# Altium integrated library ON Semi MOSFETs.IntLib: 1097 symbols (part 26 of 26)
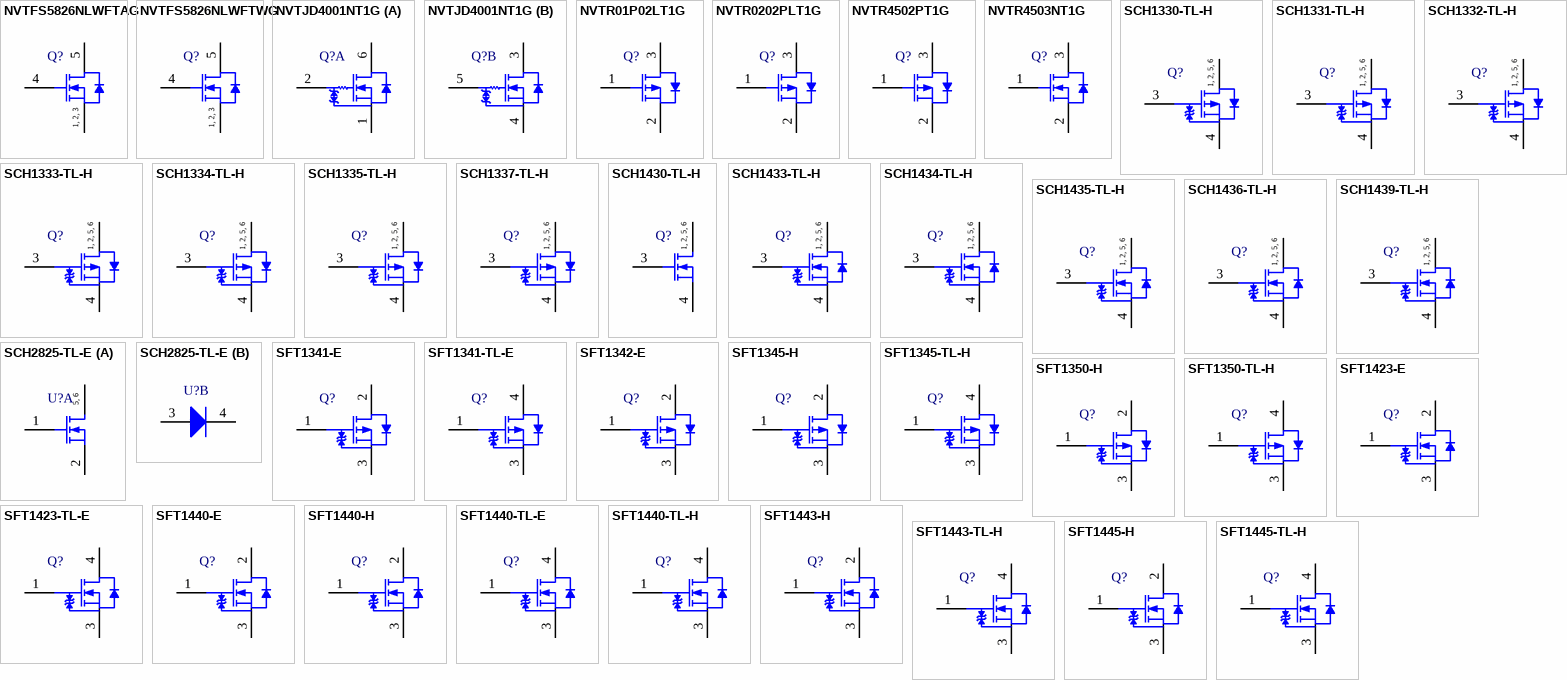
[diagram p56: symbols NVTFS5826NLWFTAG to SFT1445-TL-H]

## SFT1440-TL-E
designator Q?
N-Channel Power MOSFET, 600 V, 1.5 A, 8.1 Ohm, Single, 3-Pin TP-FA, Pb-Free, Tape and Reel; Manufacturer: On Semiconductor; PartNumber: SFT1440-TL-E; Channel Polarity: N Channel; Ciss Typ (pF): 130; Coss Typ (pF): 25; Crss Typ (pF): 4; ID Max (A): 1.5; V(BR)DSS Min (V): 600; VGS Max (V): 30; VGS(th) Max (V): 5; PackageVersion: Rev. O, 01/2012; PackageReference: TP-FA-3-369AH; PackageDescription: 3-Pin Flange Mount, Body 6.5 x 5.5 mm, Pitch 2.3 mm; Supplier 1: Digi-Key; Supplier Part Number 1: SFT1440-TL-E-ND; Supplier 2: Mouser; Supplier Part Number 2: 863-SFT1440-TL-E; Configuration: Single; Package Type: DPAK / TP-FA; Packing: Tape and Reel; RoHS: Pb-Free; Mounting Technology: Surface Mount; ComponentLink1Description: Manufacturer URL; ComponentLink1URL: http://www.onsemi.com/; ComponentLink2Description: Datasheet; ComponentLink2URL: http://www.onsemi.cn/pub_link/Collateral/SFT1440-D.PDF; ComponentLink3Description: Package Specification; ComponentLink3URL: http://www.onsemi.com/pub_link/Collateral/369AH.PDF
footprint ONSC-TP-FA-3-369AH_V (DPAK, 3-Leads, Body 6.5x5.5mm, Pitch 2.3mm)
pins: 1 G, 3 S, 4 D

## SFT1440-TL-H
designator Q?
N-Channel Power MOSFET, 600 V, 1.5 A, 8.1 Ohm, Single, 3-Pin TP-FA, Pb-Free, Tape and Reel; Manufacturer: On Semiconductor; PartNumber: SFT1440-TL-H; Channel Polarity: N Channel; Ciss Typ (pF): 130; Coss Typ (pF): 25; Crss Typ (pF): 4; ID Max (A): 1.5; V(BR)DSS Min (V): 600; VGS Max (V): 30; VGS(th) Max (V): 5; PackageVersion: Rev. O, 01/2012; PackageReference: TP-FA-3-369AH; PackageDescription: 3-Pin Flange Mount, Body 6.5 x 5.5 mm, Pitch 2.3 mm; Configuration: Single; Package Type: DPAK / TP-FA; Packing: Tape and Reel; RoHS: Pb-Free; Mounting Technology: Surface Mount; ComponentLink1Description: Manufacturer URL; ComponentLink1URL: http://www.onsemi.com/; ComponentLink2Description: Datasheet; ComponentLink2URL: http://www.onsemi.cn/pub_link/Collateral/SFT1440-D.PDF; ComponentLink3Description: Package Specification; ComponentLink3URL: http://www.onsemi.com/pub_link/Collateral/369AH.PDF
footprint ONSC-TP-FA-3-369AH_V (DPAK, 3-Leads, Body 6.5x5.5mm, Pitch 2.3mm)
pins: 1 G, 3 S, 4 D

## SFT1443-H
designator Q?
N-Channel Power MOSFET, 100 V, 9 A, 225 mOhm, Single, 3-Pin IPAK, Pb-Free, Bulk Bag; Manufacturer: On Semiconductor; PartNumber: SFT1443-H; Channel Polarity: N Channel; Ciss Typ (pF): 490; Coss Typ (pF): 34; Crss Typ (pF): 19; ID Max (A): 9; V(BR)DSS Min (V): 100; VGS Max (V): 20; VGS(th) Max (V): 2.6; PackageVersion: Rev. O, 01/2012; PackageReference: IPAK-3-369AJ; PackageDescription: 3-Pin Flange Mount, Vertical Straight Lead, Body 6.5 x 5.5 mm, Pitch 2.3 mm; Supplier 1: Digi-Key; Supplier Part Number 1: SFT1443-H-ND; Supplier 2: Mouser; Supplier Part Number 2: 863-SFT1443-H; Configuration: Single; Package Type: DPAK / TP-FA; Packing: Bulk Bag; RoHS: Pb-Free; Mounting Technology: Through Hole; ComponentLink1Description: Manufacturer URL; ComponentLink1URL: http://www.onsemi.com/; ComponentLink2Description: Datasheet; ComponentLink2URL: http://www.onsemi.com/pub_link/Collateral/ENA1896-D.PDF; ComponentLink3Description: Package Specification; ComponentLink3URL: http://www.onsemi.cn/pub_link/Collateral/369AJ.PDF
footprint ONSC-IPAK-3-369AJ (FM, 3-Leads, Body 6.7x2.5mm, Pitch 2.3mm)
pins: 1 G, 2 D, 3 S

## SFT1443-TL-H
designator Q?
N-Channel Power MOSFET, 100 V, 9 A, 225 mOhm, Single, 3-Pin TP-FA, Pb-Free, Tape and Reel; Manufacturer: On Semiconductor; PartNumber: SFT1443-TL-H; Channel Polarity: N Channel; Ciss Typ (pF): 490; Coss Typ (pF): 34; Crss Typ (pF): 19; ID Max (A): 9; V(BR)DSS Min (V): 100; VGS Max (V): 20; VGS(th) Max (V): 2.6; PackageVersion: Rev. O, 01/2012; PackageReference: TP-FA-3-369AH; PackageDescription: 3-Pin Flange Mount, Body 6.5 x 5.5 mm, Pitch 2.3 mm; Supplier 1: Digi-Key; Supplier Part Number 1: SFT1443-TL-H-ND; Supplier 2: Mouser; Supplier Part Number 2: 863-SFT1443-TL-H; Configuration: Single; Package Type: DPAK / TP-FA; Packing: Tape and Reel; RoHS: Pb-Free; Mounting Technology: Surface Mount; ComponentLink1Description: Manufacturer URL; ComponentLink1URL: http://www.onsemi.com/; ComponentLink2Description: Datasheet; ComponentLink2URL: http://www.onsemi.com/pub_link/Collateral/ENA1896-D.PDF; ComponentLink3Description: Package Specification; ComponentLink3URL: http://www.onsemi.com/pub_link/Collateral/369AH.PDF
footprint ONSC-TP-FA-3-369AH_V (DPAK, 3-Leads, Body 6.5x5.5mm, Pitch 2.3mm)
pins: 1 G, 3 S, 4 D

## SFT1445-H
designator Q?
N-Channel Power MOSFET, 100 V, 17 A, 111 mOhm, Single, 3-Pin IPAK, Pb-Free, Bulk Bag; Manufacturer: On Semiconductor; PartNumber: SFT1445-H; Channel Polarity: N Channel; Ciss Typ (pF): 1030; Coss Typ (pF): 78; Crss Typ (pF): 42; ID Max (A): 17; V(BR)DSS Min (V): 100; VGS Max (V): 20; VGS(th) Max (V): 2.6; PackageVersion: Rev. O, 01/2012; PackageReference: IPAK-3-369AJ; PackageDescription: 3-Pin Flange Mount, Vertical Straight Lead, Body 6.5 x 5.5 mm, Pitch 2.3 mm; Supplier 1: Digi-Key; Supplier Part Number 1: SFT1445-H-ND; Supplier 2: Mouser; Supplier Part Number 2: 863-SFT1445-H; Configuration: Single; Package Type: DPAK / TP-FA; Packing: Bulk Bag; RoHS: Pb-Free; Mounting Technology: Through Hole; ComponentLink1Description: Manufacturer URL; ComponentLink1URL: http://www.onsemi.com/; ComponentLink2Description: Datasheet; ComponentLink2URL: http://www.onsemi.com/pub_link/Collateral/ENA1897-D.PDF; ComponentLink3Description: Package Specification; ComponentLink3URL: http://www.onsemi.cn/pub_link/Collateral/369AJ.PDF
footprint ONSC-IPAK-3-369AJ (FM, 3-Leads, Body 6.7x2.5mm, Pitch 2.3mm)
pins: 1 G, 2 D, 3 S

## SFT1445-TL-H
designator Q?
N-Channel Power MOSFET, 100 V, 17 A, 111 mOhm, Single, 3-Pin TP-FA, Pb-Free, Tape and Reel; Manufacturer: On Semiconductor; PartNumber: SFT1445-TL-H; Channel Polarity: N Channel; Ciss Typ (pF): 1030; Coss Typ (pF): 78; Crss Typ (pF): 42; ID Max (A): 17; V(BR)DSS Min (V): 100; VGS Max (V): 20; VGS(th) Max (V): 2.6; PackageVersion: Rev. O, 01/2012; PackageReference: TP-FA-3-369AH; PackageDescription: 3-Pin Flange Mount, Body 6.5 x 5.5 mm, Pitch 2.3 mm; Supplier 1: Digi-Key; Supplier Part Number 1: SFT1445-TL-H-ND; Supplier 2: Mouser; Supplier Part Number 2: 863-SFT1445-TL-H; Configuration: Single; Package Type: DPAK / TP-FA; Packing: Tape and Reel; RoHS: Pb-Free; Mounting Technology: Surface Mount; ComponentLink1Description: Manufacturer URL; ComponentLink1URL: http://www.onsemi.com/; ComponentLink2Description: Datasheet; ComponentLink2URL: http://www.onsemi.com/pub_link/Collateral/ENA1897-D.PDF; ComponentLink3Description: Package Specification; ComponentLink3URL: http://www.onsemi.com/pub_link/Collateral/369AH.PDF
footprint ONSC-TP-FA-3-369AH_V (DPAK, 3-Leads, Body 6.5x5.5mm, Pitch 2.3mm)
pins: 1 G, 3 S, 4 D

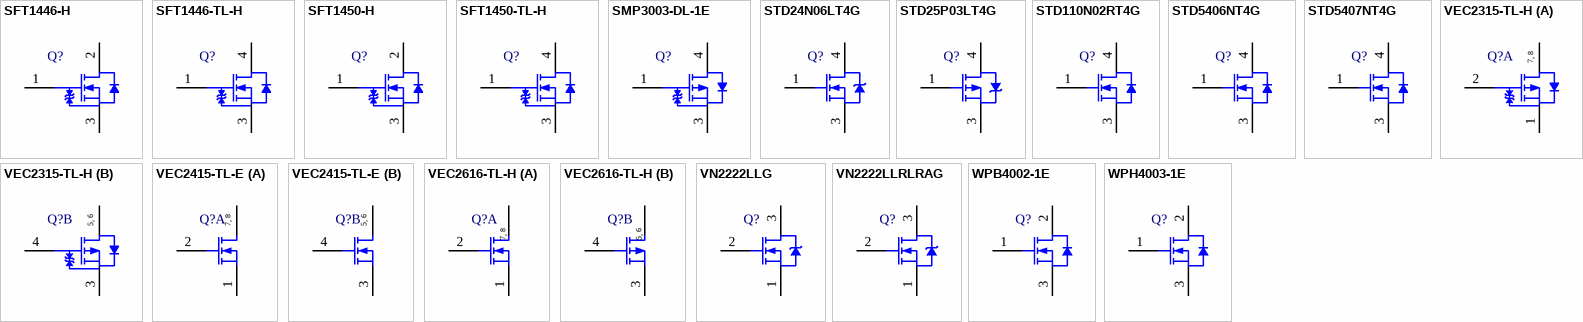
[diagram p31: symbols SFT1446-H to WPH4003-1E]

## SFT1446-H
designator Q?
N-Channel Power MOSFET, 60 V, 20 A, 51 mOhm, Single, 3-Pin IPAK, Pb-Free, Bulk Bag; Manufacturer: On Semiconductor; PartNumber: SFT1446-H; Channel Polarity: N Channel; Ciss Typ (pF): 750; Coss Typ (pF): 59; Crss Typ (pF): 47; ID Max (A): 20; V(BR)DSS Min (V): 60; VGS(th) Max (V): 2.6; PackageVersion: Rev. O, 01/2012; PackageReference: IPAK-3-369AJ; PackageDescription: 3-Pin Flange Mount, Vertical Straight Lead, Body 6.5 x 5.5 mm, Pitch 2.3 mm; Supplier 1: Digi-Key; Supplier Part Number 1: SFT1446-H-ND; Supplier 2: Mouser; Supplier Part Number 2: 863-SFT1446-H; Configuration: Single; Package Type: DPAK / TP-FA; Packing: Bulk Bag; RoHS: Pb-Free; VGS Max (V): 20; Mounting Technology: Through Hole; ComponentLink1Description: Manufacturer URL; ComponentLink1URL: http://www.onsemi.com/; ComponentLink2Description: Datasheet; ComponentLink2URL: http://www.onsemi.cn/pub_link/Collateral/SFT1446-D.PDF; ComponentLink3Description: Package Specification; ComponentLink3URL: http://www.onsemi.cn/pub_link/Collateral/369AJ.PDF
footprint ONSC-IPAK-3-369AJ (FM, 3-Leads, Body 6.7x2.5mm, Pitch 2.3mm)
pins: 1 G, 2 D, 3 S

## SFT1446-TL-H
designator Q?
N-Channel Power MOSFET, 60 V, 20 A, 51 mOhm, Single, 3-Pin TP-FA, Pb-Free, Tape and Reel; Manufacturer: On Semiconductor; PartNumber: SFT1446-TL-H; Channel Polarity: N Channel; Ciss Typ (pF): 750; Coss Typ (pF): 59; Crss Typ (pF): 47; ID Max (A): 20; V(BR)DSS Min (V): 60; VGS(th) Max (V): 2.6; PackageVersion: Rev. O, 01/2012; PackageReference: TP-FA-3-369AH; PackageDescription: 3-Pin Flange Mount, Body 6.5 x 5.5 mm, Pitch 2.3 mm; Supplier 1: Digi-Key; Supplier Part Number 1: SFT1446-TL-H-ND; Supplier 2: Newark; Supplier Part Number 2: 65T1631; Supplier 3: Mouser; Supplier Part Number 3: 863-SFT1446-TL-H; Configuration: Single; Package Type: DPAK / TP-FA; Packing: Tape and Reel; RoHS: Pb-Free; VGS Max (V): 20; Mounting Technology: Surface Mount; ComponentLink1Description: Manufacturer URL; ComponentLink1URL: http://www.onsemi.com/; ComponentLink2Description: Datasheet; ComponentLink2URL: http://www.onsemi.cn/pub_link/Collateral/SFT1446-D.PDF; ComponentLink3Description: Package Specification; ComponentLink3URL: http://www.onsemi.com/pub_link/Collateral/369AH.PDF
footprint ONSC-TP-FA-3-369AH_V (DPAK, 3-Leads, Body 6.5x5.5mm, Pitch 2.3mm)
pins: 1 G, 3 S, 4 D

## SFT1450-H
designator Q?
N-Channel Power MOSFET, 40 V, 21 A, 28 mOhm, Single, 3-Pin IPAK, Pb-Free, Bulk Bag; Manufacturer: On Semiconductor; PartNumber: SFT1450-H; Channel Polarity: N Channel; Ciss Typ (pF): 715; Coss Typ (pF): 85; Crss Typ (pF): 65; ID Max (A): 21; V(BR)DSS Min (V): 40; VGS Max (V): 20; VGS(th) Max (V): 2.6; PackageVersion: Rev. O, 01/2012; PackageReference: IPAK-3-369AJ; PackageDescription: 3-Pin Flange Mount, Vertical Straight Lead, Body 6.5 x 5.5 mm, Pitch 2.3 mm; Supplier 1: Digi-Key; Supplier Part Number 1: SFT1450-H-ND; Supplier 2: Mouser; Supplier Part Number 2: 863-SFT1450-H; Configuration: Single; Package Type: DPAK / TP-FA; Packing: Bulk Bag; RoHS: Pb-Free; Mounting Technology: Through Hole; ComponentLink1Description: Manufacturer URL; ComponentLink1URL: http://www.onsemi.com/; ComponentLink2Description: Datasheet; ComponentLink2URL: http://www.onsemi.com/pub_link/Collateral/ENA1743-D.PDF; ComponentLink3Description: Package Specification; ComponentLink3URL: http://www.onsemi.cn/pub_link/Collateral/369AJ.PDF
footprint ONSC-IPAK-3-369AJ (FM, 3-Leads, Body 6.7x2.5mm, Pitch 2.3mm)
pins: 1 G, 2 D, 3 S

## SFT1450-TL-H
designator Q?
N-Channel Power MOSFET, 40 V, 21 A, 28 mOhm, Single, 3-Pin IPAK, Pb-Free, Tape and Reel; Manufacturer: On Semiconductor; PartNumber: SFT1450-TL-H; Channel Polarity: N Channel; Ciss Typ (pF): 715; Coss Typ (pF): 85; Crss Typ (pF): 65; ID Max (A): 21; V(BR)DSS Min (V): 40; VGS Max (V): 20; VGS(th) Max (V): 2.6; PackageReference: DPAK-3; PackageDescription: 3-Pin Flange Mount, Body 6.5 x 5.5 mm, Pitch 2.3 mm; Supplier 1: Digi-Key; Supplier Part Number 1: SFT1450-TL-H-ND; Supplier 2: Mouser; Supplier Part Number 2: 863-SFT1450-TL-H; Configuration: Single; Package Type: DPAK / TP-FA; Packing: Tape and Reel; RoHS: Pb-Free; Mounting Technology: Surface Mount; ComponentLink1Description: Manufacturer URL; ComponentLink1URL: http://www.onsemi.com/; ComponentLink2Description: Datasheet; ComponentLink2URL: http://www.onsemi.com/pub_link/Collateral/ENA1743-D.PDF; ComponentLink3Description: Package Specification; ComponentLink3URL: http://www.onsemi.com/pub_link/Collateral/2SB1204-D.PDF
footprint ONSC-DPAK-3_V (DPAK, 3-Leads, Body 6.5x5.5mm, Pitch 2.3mm)
pins: 1 G, 3 S, 4 D

## SMP3003-DL-1E
designator Q?
P-Channel Power MOSFET, -75 V, -100 A, 8.0 mOhm, 3-Pin TO-263, Pb-Free, Tape and Reel; Manufacturer: On Semiconductor; PartNumber: SMP3003-DL-1E; Channel Polarity: P Channel; Ciss Typ (pF): 13400; Configuration: Single; Coss Typ (pF): 1000; Crss Typ (pF): 740; ID Max (A): 100; PD Max (W): 90; Qrr Typ (nC): 380; V(BR)DSS Min (V): 75; VGS Max (V): 20; VGS(th) Max (V): 2.6; PackageReference: TO-263-2L-3; PackageDescription: 3-Pin Flange Mount, Body 10 x 9.2 mm, Pitch 2.54 mm; Supplier 1: Newark; Supplier Part Number 1: 60W1978; Supplier 2: Mouser; Supplier Part Number 2: 863-SMP3003-DL-1E; Package Type: D2PAK / TO-263-2L; Packing: Tape and Reel; RoHS: Pb-Free; Mounting Technology: Surface Mount; ComponentLink1Description: Manufacturer URL; ComponentLink1URL: http://www.onsemi.com/; ComponentLink2Description: Datasheet; ComponentLink2URL: http://www.onsemi.com/pub_link/Collateral/ENA1655-D.PDF; ComponentLink3Description: Package Specification; ComponentLink3URL: http://www.onsemi.com/pub_link/Collateral/2SK3820-D.PDF
footprint ONSC-TO-263-2L-3_V (FM, 3-Leads, Body 10x9.2mm, Pitch 2.54mm)
pins: 1 G, 3 S, 4 D

## STD24N06LT4G
designator Q?
Power MOSFET, 24 A, 60 V, Logic Level, N-Channel, 3-Pin DPAK, Pb-Free, Tape and Reel; Manufacturer: On Semiconductor; PartNumber: STD24N06LT4G; Channel Polarity: N Channel; Ciss Typ (pF): 814; Configuration: Single; Coss Typ (pF): 258; Crss Typ (pF): 80; Qrr Typ (nC): 84; V(BR)DSS Min (V): 60; VGS(th) Max (V): 2; DatasheetVersion: Rev. 3; PackageVersion: Rev. E, 02/2014; PackageReference: DPAK-3-369C-01; PackageDescription: 3-Pin Flange Mount, Body 6.54 x 6.095 mm, Pitch 2.29 mm; Package Type: DPAK-3; Packing: Tape and Reel; RoHS: Pb-Free; Mounting Technology: Surface Mount; ComponentLink1Description: Manufacturer URL; ComponentLink1URL: http://www.onsemi.com/; ComponentLink2Description: Datasheet; ComponentLink2URL: http://www.onsemi.cn/pub_link/Collateral/NTD24N06L-D.PDF; ComponentLink3Description: Package Specification; ComponentLink3URL: http://www.onsemi.cn/pub_link/Collateral/369C.PDF
footprint ONSC-DPAK-3-369C-01_V (DPAK, 3-Leads, Body 6.54x6.095mm, Pitch 2.29mm)
pins: 1 G, 3 S, 4 D

## STD25P03LT4G
designator Q?
Power MOSFET, -25 A, -30 V, Logic Level P-Channel, 3-Pin DPAK, Pb-Free, Tape and Reel; Manufacturer: On Semiconductor; PartNumber: STD25P03LT4G; Channel Polarity: P Channel; Ciss Typ (pF): 900; Configuration: Single; Coss Typ (pF): 290; Crss Typ (pF): 105; ID Max (A): 25; PD Max (W): 75; Qrr Typ (nC): 35; V(BR)DSS Min (V): 30; VGS Max (V): 15; VGS(th) Max (V): 2; DatasheetVersion: Rev. 4; PackageVersion: Rev. E, 02/2014; PackageReference: DPAK-3-369C-01; PackageDescription: 3-Pin Flange Mount, Body 6.54 x 6.095 mm, Pitch 2.29 mm; Package Type: DPAK-3; Packing: Tape and Reel; RoHS: Pb-Free; Mounting Technology: Surface Mount; ComponentLink1Description: Manufacturer URL; ComponentLink1URL: http://www.onsemi.com/; ComponentLink2Description: Datasheet; ComponentLink2URL: http://www.onsemi.cn/pub_link/Collateral/NTD25P03L-D.PDF; ComponentLink3Description: Package Specification; ComponentLink3URL: http://www.onsemi.cn/pub_link/Collateral/369C.PDF
footprint ONSC-DPAK-3-369C-01_V (DPAK, 3-Leads, Body 6.54x6.095mm, Pitch 2.29mm)
pins: 1 G, 3 S, 4 D

## STD110N02RT4G
designator Q?
Power MOSFET, 24 V, 110 A, N-Channel, 3-Pin DPAK, Pb-Free, Tape and Reel; Manufacturer: On Semiconductor; PartNumber: STD110N02RT4G; Channel Polarity: N Channel; Ciss Typ (pF): 2710; Configuration: Single; Coss Typ (pF): 1105; Crss Typ (pF): 450; ID Max (A): 110; Qrr Typ (nC): 48; V(BR)DSS Min (V): 24; VGS Max (V): 20; VGS(th) Max (V): 2; DatasheetVersion: Rev. 10; PackageVersion: Rev. B, 06/2010; PackageReference: DPAK-3-369AA-01; PackageDescription: 3-Pin Flange Mount, Body 6.54 x 6.095 mm, Pitch 2.29 mm; Package Type: DPAK-3; Packing: Tape and Reel; RoHS: Pb-Free; Mounting Technology: Surface Mount; ComponentLink1Description: Manufacturer URL; ComponentLink1URL: http://www.onsemi.com/; ComponentLink2Description: Datasheet; ComponentLink2URL: http://www.onsemi.cn/pub_link/Collateral/NTD110N02R-D.PDF; ComponentLink3Description: Package Specification; ComponentLink3URL: http://www.onsemi.cn/pub_link/Collateral/369AA.PDF
footprint ONSC-DPAK-3-369AA-01_V (DPAK, 3-Leads, Body 6.54x6.095mm, Pitch 2.29mm)
pins: 1 G, 3 S, 4 D

## STD5406NT4G
designator Q?
Power MOSFET, 40 V, 70 A, Single N-Channel, 3-Pin DPAK, Pb-Free, Tape and Reel; Manufacturer: On Semiconductor; PartNumber: STD5406NT4G; Channel Polarity: N Channel; Ciss Typ (pF): 1375; Coss Typ (pF): 370; Crss Typ (pF): 160; ID Max (A): 70; Qrr Typ (nC): 65; V(BR)DSS Min (V): 40; VGS Max (V): 20; VGS(th) Max (V): 3.5; DatasheetVersion: Rev. 6; PackageVersion: Rev. E, 02/2014; PackageReference: DPAK-3-369C-01; PackageDescription: 3-Pin Flange Mount, Body 6.54 x 6.095 mm, Pitch 2.29 mm; Configuration: Single; Package Type: DPAK-3; Packing: Tape and Reel; RoHS: Pb-Free; Mounting Technology: Surface Mount; ComponentLink1Description: Manufacturer URL; ComponentLink1URL: http://www.onsemi.com/; ComponentLink2Description: Datasheet; ComponentLink2URL: http://www.onsemi.cn/pub_link/Collateral/NTD5406N-D.PDF; ComponentLink3Description: Package Specification; ComponentLink3URL: http://www.onsemi.cn/pub_link/Collateral/369C.PDF
footprint ONSC-DPAK-3-369C-01_V (DPAK, 3-Leads, Body 6.54x6.095mm, Pitch 2.29mm)
pins: 1 G, 3 S, 4 D

## STD5407NT4G
designator Q?
Power MOSFET, 40 V, 38 A, Single N-Channel, 3-Pin DPAK, Pb-Free, Tape and Reel; Manufacturer: On Semiconductor; PartNumber: STD5407NT4G; Channel Polarity: N Channel; Ciss Typ (pF): 615; Coss Typ (pF): 173; Crss Typ (pF): 80; ID Max (A): 38; Qrr Typ (nC): 40; VGS Max (V): 20; VGS(th) Max (V): 3.5; DatasheetVersion: Rev. 5; PackageVersion: Rev. E, 02/2014; PackageReference: DPAK-3-369C-01; PackageDescription: 3-Pin Flange Mount, Body 6.54 x 6.095 mm, Pitch 2.29 mm; Configuration: Single; Package Type: DPAK-3; Packing: Tape and Reel; RoHS: Pb-Free; V(BR)DSS Min (V): 40; Mounting Technology: Surface Mount; ComponentLink1Description: Manufacturer URL; ComponentLink1URL: http://www.onsemi.com/; ComponentLink2Description: Datasheet; ComponentLink2URL: http://www.onsemi.cn/pub_link/Collateral/NTD5407N-D.PDF; ComponentLink3Description: Package Specification; ComponentLink3URL: http://www.onsemi.cn/pub_link/Collateral/369C.PDF
footprint ONSC-DPAK-3-369C-01_V (DPAK, 3-Leads, Body 6.54x6.095mm, Pitch 2.29mm)
pins: 1 G, 3 S, 4 D

## VEC2315-TL-H
designator Q?
P-Channel Power MOSFET, -60 V, -2.5 A, 137 mOhm, Dual, 8-Pin VEC, Pb-Free, Reel; Manufacturer: On Semiconductor; PartNumber: VEC2315-TL-H; Channel Polarity: P Channel; Ciss Typ (pF): 420; Coss Typ (pF): 54; Crss Typ (pF): 44; ID Max (A): 2.5; PD Max (W): 0.9; V(BR)DSS Min (V): 60; VGS Max (V): 20; VGS(th) Max (V): 2.6; PackageReference: VEC-8; PackageDescription: 8-Pin Small Outline Transistor, Body 2.9 x 2.3 mm, Pitch 0.65 mm; Supplier 1: Digi-Key; Supplier Part Number 1: VEC2315-TL-H-ND; Supplier 2: Newark; Supplier Part Number 2: 07W7454; Supplier 3: Mouser; Supplier Part Number 3: 863-VEC2315-TL-H; Configuration: Dual; Package Type: SOT-28FL / VEC-8; Packing: Reel; RoHS: Pb-Free; Mounting Technology: Surface Mount; ComponentLink1Description: Manufacturer URL; ComponentLink1URL: http://www.onsemi.com/; ComponentLink2Description: Datasheet; ComponentLink2URL: http://www.onsemi.com/pub_link/Collateral/EN8699-D.PDF; ComponentLink3Description: Package Specification; ComponentLink3URL: http://www.onsemi.com/pub_link/Collateral/EN8699-D.PDF
footprint ONSC-VEC-8_V (SOT23, 8-Leads, Body 2.9x2.3mm, Pitch 0.65mm)
part A pins: 1 S1, 2 G1, 7 D1, 8 D1
part B pins: 3 S2, 4 G2, 5 D2, 6 D2
part A text: 7, 8
part B text: 5, 6

## VEC2415-TL-E
designator Q?
N-Channel Power MOSFET, 60 V, 3 A, 80 mOhm, Dual, 8-Pin VEC, Pb-Free, Tape and Reel; Manufacturer: On Semiconductor; PartNumber: VEC2415-TL-E; Channel Polarity: N Channel; Ciss Typ (pF): 505; Coss Typ (pF): 57; Crss Typ (pF): 37; ID Max (A): 3; PD Max (W): 0.9; V(BR)DSS Min (V): 60; VGS Max (V): 20; VGS(th) Max (V): 2.6; PackageReference: VEC-8; PackageDescription: 8-Pin Small Outline Transistor, Body 2.9 x 2.3 mm, Pitch 0.65 mm; Supplier 1: Digi-Key; Supplier Part Number 1: VEC2415-TL-E-ND; Supplier 2: Newark; Supplier Part Number 2: 65T1804; Supplier 3: Mouser; Supplier Part Number 3: 863-VEC2415-TL-E; Configuration: Dual; Package Type: SOT-28FL / VEC-8; Packing: Tape and Reel; RoHS: Pb-Free; Mounting Technology: Surface Mount; ComponentLink1Description: Manufacturer URL; ComponentLink1URL: http://www.onsemi.com/; ComponentLink2Description: Datasheet; ComponentLink2URL: http://www.onsemi.com/pub_link/Collateral/ENA1713-D.PDF; ComponentLink3Description: Package Specification; ComponentLink3URL: http://www.onsemi.com/pub_link/Collateral/EN8699-D.PDF
footprint ONSC-VEC-8_V (SOT23, 8-Leads, Body 2.9x2.3mm, Pitch 0.65mm)
part A pins: 1 S1, 2 G1, 7 D1, 8 D1
part B pins: 3 S2, 4 G2, 5 D2, 6 D2
part A text: 7, 8
part B text: 5, 6

## VEC2616-TL-H
designator Q?
Power MOSFET 60 V, 3 A, 80 mOhm, -60 V, -2.5 A, 137 mOhm, Complementary Dual, 8-Pin VEC, Pb-Free, Tape and Reel; Manufacturer: On Semiconductor; PartNumber: VEC2616-TL-H; PD Max (W): 0.9; V(BR)DSS Min (V): 60; VGS Max (V): 20; VGS(th) Max (V): 2.6; PackageReference: VEC-8; PackageDescription: 8-Pin Small Outline Transistor, Body 2.9 x 2.3 mm, Pitch 0.65 mm; Supplier 1: Digi-Key; Supplier Part Number 1: VEC2616-TL-H-ND; Supplier 2: Newark; Supplier Part Number 2: 65T1805; Supplier 3: Mouser; Supplier Part Number 3: 863-VEC2616-TL-H; Channel Polarity: Complementary; Configuration: Dual; Package Type: SOT-28FL / VEC-8; Packing: Tape and Reel; RoHS: Pb-Free; Mounting Technology: Surface Mount; ComponentLink1Description: Manufacturer URL; ComponentLink1URL: http://www.onsemi.com/; ComponentLink2Description: Datasheet; ComponentLink2URL: http://www.onsemi.com/pub_link/Collateral/ENA1822-D.PDF; ComponentLink3Description: Package Specification; ComponentLink3URL: http://www.onsemi.com/pub_link/Collateral/EN8699-D.PDF
footprint ONSC-VEC-8_V (SOT23, 8-Leads, Body 2.9x2.3mm, Pitch 0.65mm)
part A pins: 1 S1, 2 G1, 7 D1, 8 D1
part B pins: 3 S2, 4 G2, 5 D2, 6 D2
part A text: 7, 8
part B text: 5, 6

## VN2222LLG
designator Q?
Small Signal MOSFET, 150 mA, 60 V, N-Channel, 3-Pin TO-92, Pb-Free, Bulk Box; Manufacturer: On Semiconductor; PartNumber: VN2222LLG; Channel Polarity: N Channel; Configuration: Single; ID Max (A): 0.15; PD Max (W): 0.4; V(BR)DSS Min (V): 60; VGS Max (V): 20; VGS(th) Max (V): 2.5; DatasheetVersion: Rev. 4; PackageVersion: Rev. AM; PackageReference: TO-92-3-29-11_AM_SL; PackageDescription: 3-Pin Transistor Outline, Body 4.825 x 3.685 mm, Pitch 1.27 mm; Supplier 1: Digi-Key; Supplier Part Number 1: VN2222LLGOS-ND; Supplier 2: Farnell; Supplier Part Number 2: 9556834; Supplier 3: Newark; Supplier Part Number 3: 45J2394; Supplier 4: Mouser; Supplier Part Number 4: 863-VN2222LLG; Package Type: TO-92; Packing: Bulk Box; RoHS: Pb-Free; Mounting Technology: Through Hole; ComponentLink1Description: Manufacturer URL; ComponentLink1URL: http://www.onsemi.com/; ComponentLink2Description: Datasheet; ComponentLink2URL: http://www.onsemi.com/pub_link/Collateral/VN2222LL-D.PDF; ComponentLink3Description: Package Specification; ComponentLink3URL: http://www.onsemi.cn/pub_link/Collateral/2N6426-D.PDF
footprint ONSC-TO-92-3-29-11 (TO, 3-Leads, Body Dia 4.7mm, Pitch 1.27mm)
pins: 1 S, 2 G, 3 D

## VN2222LLRLRAG
designator Q?
Small Signal MOSFET, 150 mA, 60 V, N-Channel, 3-Pin TO-92, Pb-Free, Tape and Reel; Manufacturer: On Semiconductor; PartNumber: VN2222LLRLRAG; Channel Polarity: N Channel; Configuration: Single; ID Max (A): 0.15; PD Max (W): 0.4; V(BR)DSS Min (V): 60; VGS Max (V): 20; VGS(th) Max (V): 2.5; DatasheetVersion: Rev. 4; PackageVersion: Rev. AM; PackageReference: TO-92-3-29-11_AM_BL; PackageDescription: 3-Pin Transistor Outline, Body 4.825 x 3.685 mm, Pitch 1.27 mm; Supplier 1: Digi-Key; Supplier Part Number 1: VN2222LLRLRAGOSTR-ND; Supplier 2: Digi-Key; Supplier Part Number 2: VN2222LLRLRAGOSCT-ND; Supplier 3: Mouser; Supplier Part Number 3: 863-VN2222LLRLRAG; Package Type: TO-92; Packing: Tape and Reel; RoHS: Pb-Free; Mounting Technology: Through Hole; ComponentLink1Description: Manufacturer URL; ComponentLink1URL: http://www.onsemi.com/; ComponentLink2Description: Datasheet; ComponentLink2URL: http://www.onsemi.com/pub_link/Collateral/VN2222LL-D.PDF; ComponentLink3Description: Package Specification; ComponentLink3URL: http://www.onsemi.com/pub_link/Collateral/MAC97-D.PDF
footprint ONSC-TO-92-3-29-11_AM_BL (TO, 3-Leads, Body Dia 4.7mm, Pitch 2.6mm)
pins: 1 S, 2 G, 3 D

## WPB4002-1E
designator Q?
N-Channel Power MOSFET, 600 V, 23 A, 0.36 Ohm, 3-Pin TO-3P, Pb-Free, Tube; Manufacturer: On Semiconductor; PartNumber: WPB4002-1E; Channel Polarity: N Channel; Ciss Typ (pF): 2200; Configuration: Single; Coss Typ (pF): 400; Crss Typ (pF): 83; ID Max (A): 23; Qrr Typ (nC): 340; V(BR)DSS Min (V): 600; VGS Max (V): 30; VGS(th) Max (V): 5; PackageVersion: Rev. O, 04/2012; PackageReference: TO-3P-3L-3-340AF; PackageDescription: 3-Pin Flange Mount, Vertical Straight Lead, Body 15.6 x 4.8 mm, Pitch 5.45 mm; Supplier 1: Newark; Supplier Part Number 1: 11X5238; Supplier 2: Mouser; Supplier Part Number 2: 863-WPB4002-1E; Package Type: TO-3PB; Packing: Tube; RoHS: Pb-Free; Mounting Technology: Through Hole; ComponentLink1Description: Manufacturer URL; ComponentLink1URL: http://www.onsemi.com/; ComponentLink2Description: Datasheet; ComponentLink2URL: http://www.onsemi.com/pub_link/Collateral/ENA1769-D.PDF; ComponentLink3Description: Package Specification; ComponentLink3URL: http://www.onsemi.com/pub_link/Collateral/340AF.PDF
footprint ONSC-TO-3P-3L-3-340AF (FM, 3-Leads, Body 15.8x5mm, Pitch 5.45mm)
pins: 1 G, 2 D, 3 S

## WPH4003-1E
designator Q?
N-Channel Power MOSFET, 1700 V, 3 A, 10.5 Ohm, 3-Pin TO-3PF-3L, Pb-Free, Tube; Manufacturer: On Semiconductor; PartNumber: WPH4003-1E; Channel Polarity: N Channel; Ciss Typ (pF): 850; Configuration: Single; Coss Typ (pF): 90; Crss Typ (pF): 27; ID Max (A): 3; Qrr Typ (nC): 3000; V(BR)DSS Min (V): 1700; VGS Max (V): 30; VGS(th) Max (V): 4; PackageVersion: Rev. O, 04/2012; PackageReference: TO-3PF-3L-3-340AH; PackageDescription: 3-Pin Flange Mount, Body 15.5 x 5.5 mm, Pitch 5.45 mm; Supplier 1: Digi-Key; Supplier Part Number 1: WPH4003-1EOS-ND; Supplier 2: Newark; Supplier Part Number 2: 60W2015; Supplier 3: Mouser; Supplier Part Number 3: 863-WPH4003-1E; Package Type: TO-3PF-3L; Packing: Tube; RoHS: Pb-Free; Mounting Technology: Through Hole; ComponentLink1Description: Manufacturer URL; ComponentLink1URL: http://www.onsemi.com/; ComponentLink2Description: Datasheet; ComponentLink2URL: http://www.onsemi.com/pub_link/Collateral/ENA1967-D.PDF; ComponentLink3Description: Package Specification; ComponentLink3URL: http://www.onsemi.com/pub_link/Collateral/340AH.PDF
footprint ONSC-TO-3PF-3L-3-340AH (FM, 3-Leads, Body 15.7x5.7mm, Pitch 5.45mm)
pins: 1 G, 2 D, 3 S